# EAGLE library part PWR_REG_BUCK_LM5161PWPR (library !GPLIB_ACTIVE)
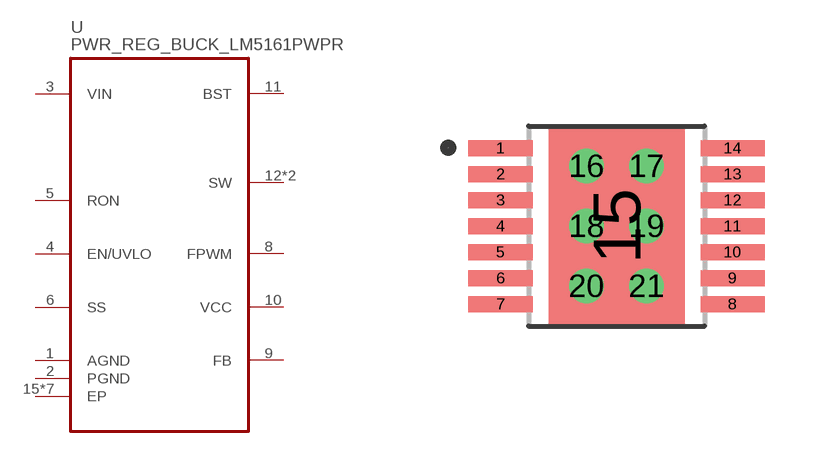
[diagram p6: symbol with the pads of TSSOP_14P_POWERPAD; footprint TSSOP_14P_POWERPAD]

Designator prefix U

## PWR_REG_BUCK_LM5161PWPR  [TSSOP_14P_POWERPAD]
1  AGND  pwr
2  PGND  pwr
3  VIN  in
4  EN/UVLO  in
5  RON  in
6  SS
8  FPWM  in
9  FB  in
10  VCC  pwr
11  BST
12  SW
13  SW
15  EP
16  EP
17  EP
18  EP
19  EP
20  EP
21  EP

## Footprint TSSOP_14P_POWERPAD (pad centres in mm)
smd 1.6 x 0.4: 1 -2.9,1.95; 2 -2.9,1.3; 3 -2.9,0.65; 4 -2.9,0; 5 -2.9,-0.65; 6 -2.9,-1.3; 7 -2.9,-1.95; 8 2.9,-1.95; 9 2.9,-1.3; 10 2.9,-0.65; 11 2.9,0; 12 2.9,0.65; 13 2.9,1.3; 14 2.9,1.95
smd 3.4 x 5: 15 0,0
drill 0.35 pad 0.7: 16 -0.75,1.5; 17 0.75,1.5; 18 -0.75,0; 19 0.75,0; 20 -0.75,-1.5; 21 0.75,-1.5